# Altium footprint library pcb_lib.PcbLib: 17 footprints (part 1 of 2)
Each footprint in its own frame and in the unit in brackets; x right, y up, seen from the top. Pads: shape width x height; smd on the part's side, far side on the other; paste and mask are expansions set on the pad; w line width, h text height; cw(c..) or ccw(c..) is an arc to the next point about the centre after c.
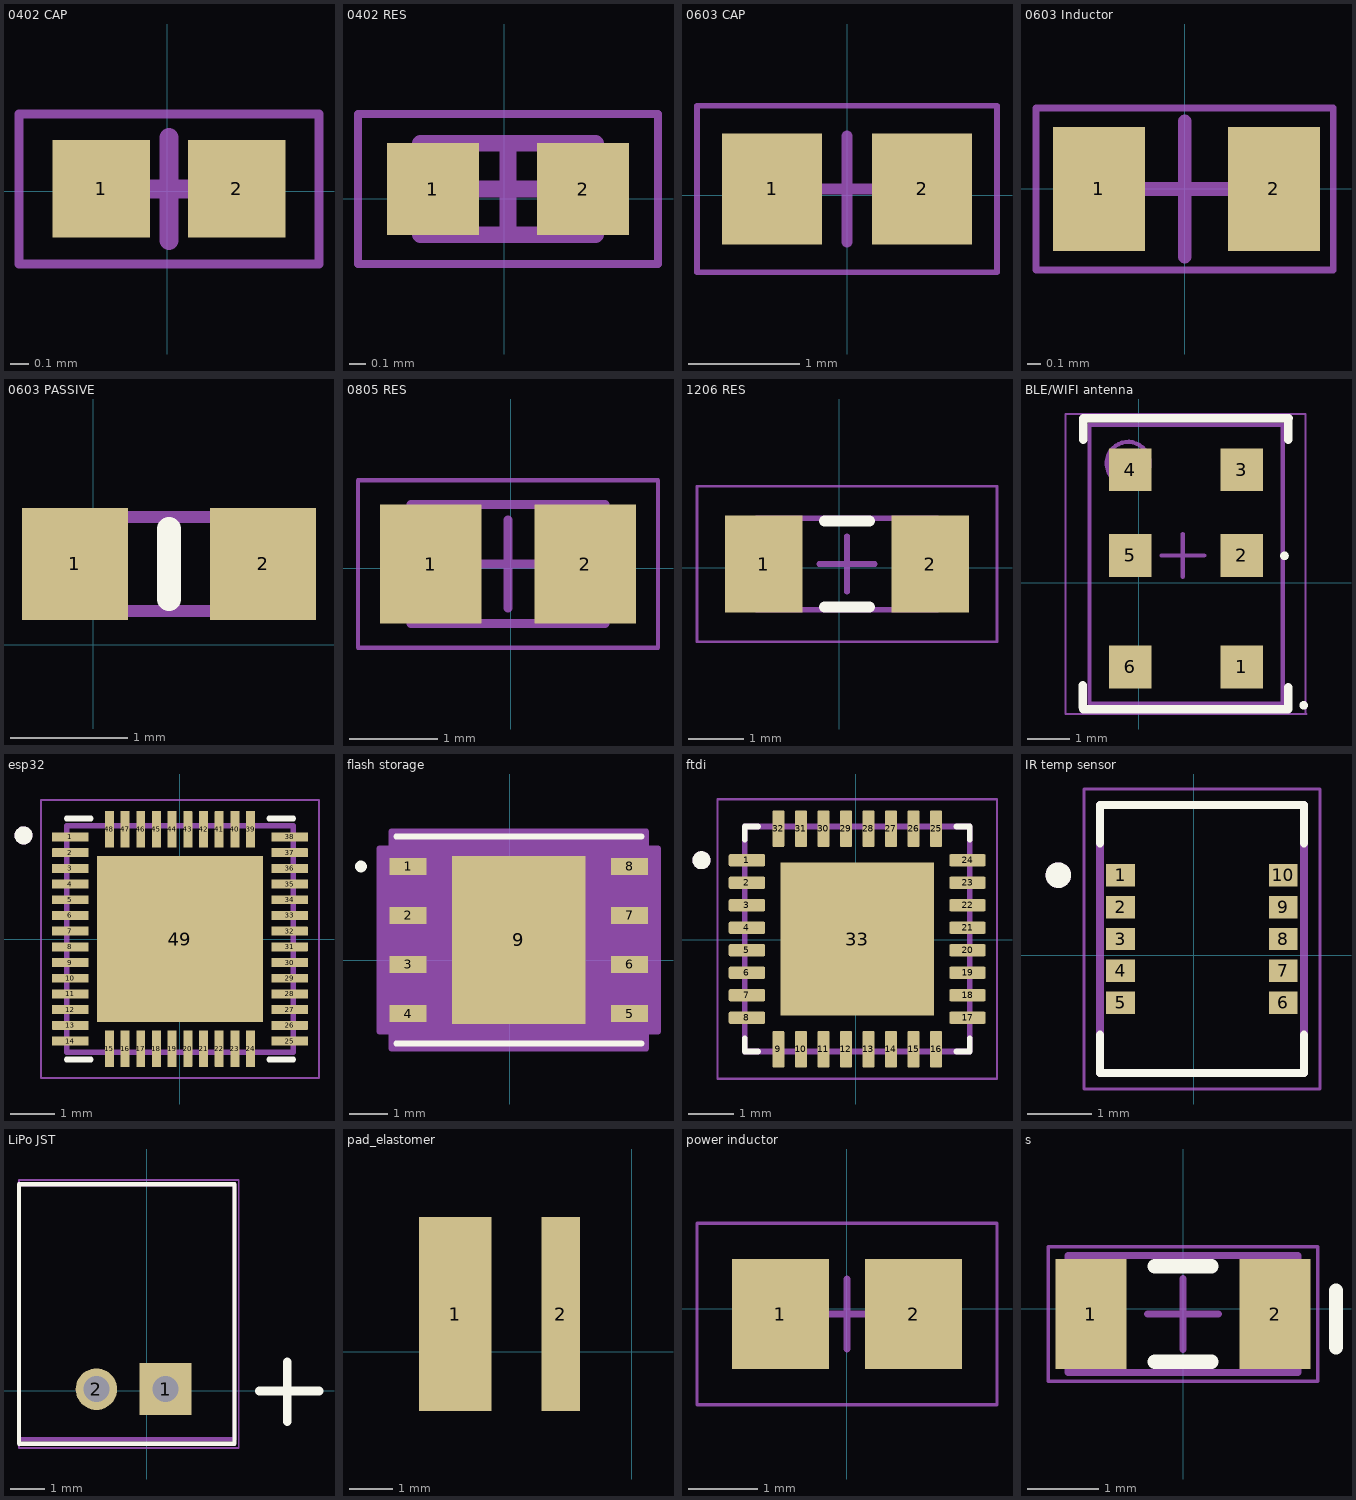
[diagram p0: the footprints below, top view; thin cyan lines are the x and y axes]

## 0402 CAP [mm]
pads (2):
  rect 0.52x0.52 smd: 1(-0.351,0.013) 2(0.369,0.013)
Mechanical 15:
  lines w0.05: -0.791,-0.387 -0.791,0.413 0.809,0.413 0.809,-0.387 -0.791,-0.387
  lines w0.1: -0.266,0.013 0.284,0.013 ; 0.009,-0.262 0.009,0.288
3D body "CAPC1005X06L.STEP": height 0.46, standoff -0.04, extent -0.491,-0.237 0.509,0.263

## 0402 RES [mm]
pads (2):
  rect 0.55x0.55 smd: 1(-0.428,0.058) 2(0.472,0.058)
Mechanical 13:
  lines w0.1: -0.503,-0.217 0.547,-0.217 0.547,0.333 -0.503,0.333 -0.503,-0.217
Mechanical 15:
  lines w0.05: -0.878,-0.392 0.922,-0.392 0.922,0.508 -0.878,0.508 -0.878,-0.392
  lines w0.1: -0.253,0.058 0.297,0.058 ; 0.022,-0.217 0.022,0.333
3D body "RESC1005X04N.step": height 0.4, standoff 0, extent -0.503,-0.217 0.547,0.333

## 0603 CAP [mm]
pads (2):
  rect 0.9x1 smd: 1(-0.677,0.057) 2(0.673,0.057)
Mechanical 15:
  lines w0.05: -1.352,-0.693 1.348,-0.693 1.348,0.807 -1.352,0.807 -1.352,-0.693
  lines w0.1: -0.477,0.057 0.473,0.057 ; -0.002,-0.418 -0.002,0.532
3D body "CAPC1608X09L.STEP": height 0.78, standoff -0.02, extent -0.802,-0.343 0.798,0.457

## 0603 Inductor [mm]
pads (2):
  rect 0.68x0.92 smd: 1(-0.635,0) 2(0.66,0)
Mechanical 15:
  lines w0.05: -1.1,-0.6 1.1,-0.6 1.1,0.6 -1.1,0.6 -1.1,-0.6
  lines w0.1: -0.5,0 0.5,0 ; 0,-0.5 0,0.5
3D body "STEP-WE-PMCI-0603_LP-rev1.stp": height 0.81, standoff 0.01, extent -0.762,-0.419 0.838,0.381

## 0603 PASSIVE [mm]
pads (2):
  rect 0.9x0.95 smd: 1(-0.158,0.687) 2(1.442,0.687)
Top Overlay:
  lines w0.2: 0.642,0.387 0.642,0.987
Mechanical 15:
  lines w0.1: -0.158,0.287 -0.158,1.087 1.442,1.087 1.442,0.287 -0.158,0.287
3D body "C0603C104J5RACTU.STEP": height 0.9, standoff 0.1, extent -0.158,0.179 1.442,1.049

## 0805 RES [mm]
pads (2):
  rect 1.15x1.35 smd: 1(-0.908,0.05) 2(0.842,0.05)
Mechanical 13:
  lines w0.1: -1.133,-0.625 -1.133,0.725 1.067,0.725 1.067,-0.625 -1.133,-0.625
Mechanical 15:
  lines w0.05: -1.733,-0.9 -1.733,1 1.667,1 1.667,-0.9 -1.733,-0.9
  lines w0.1: -0.533,0.05 0.467,0.05 ; -0.033,-0.45 -0.033,0.55
3D body "RESC2012X07N.step": height 0.7, standoff 0, extent -1.133,-0.625 1.067,0.725

## 1206 RES [mm]
pads (2):
  rect 1.4x1.75 smd: 1(-1.36,0.069) 2(1.64,0.069)
Top Overlay:
  lines w0.2: -0.26,-0.706 0.54,-0.706 ; -0.26,0.844 0.54,0.844
Mechanical 13:
  lines w0.1: -1.485,-0.756 1.765,-0.756 1.765,0.894 -1.485,0.894 -1.485,-0.756
Mechanical 15:
  lines w0.05: -2.56,-1.331 2.84,-1.331 2.84,1.469 -2.56,1.469 -2.56,-1.331
  lines w0.1: -0.36,0.069 0.64,0.069 ; 0.14,-0.431 0.14,0.569
3D body "RESC3115X07M.step": height 0.7, standoff 0, extent -1.485,-0.756 1.765,0.894

## BLE/WIFI antenna [mm]
pads (6):
  rect 1x1 smd: 1(2.397,-1.958) 2(2.397,0.642) 3(2.397,2.642) 4(-0.203,2.642) 5(-0.203,0.642) 6(-0.203,-1.958)
Top Overlay:
  circle w0.1: c3.842,-2.857 r0.05
  lines w0.1: 3.436,0.662 ccw(c3.395,0.633) 3.445,0.633
  lines w0.2: -1.315,-2.898 -1.315,-2.39 ; -1.303,-2.946 3.478,-2.946 3.478,-2.438 ; -1.303,3.342 -1.303,3.842 3.497,3.842 ; 3.478,3.342 3.478,3.842
Top Assembly:
  circle w0.1: c-0.253,2.792 r0.5
  lines w0.1: -1.153,-2.819 3.353,-2.819 3.353,3.692 -1.153,3.692 -1.153,-2.819
Top Courtyard:
  lines w0.05: 3.888,-3.058 3.888,3.942 -1.713,3.942 -1.713,-3.058 3.907,-3.058
  lines w0.1: 0.524,0.642 1.524,0.642 ; 1.024,0.142 1.024,1.142
3D body: height 0.5, standoff 0.4, extent -1.153,-2.819 3.353,3.692

## esp32 [mm]
pads (49):
  rrect5% 0.81x0.2 smd: 1(-2.445,2.275) 2(-2.445,1.925) 3(-2.445,1.575) 4(-2.445,1.225) 5(-2.445,0.875) 6(-2.445,0.525) 7(-2.445,0.175) 8(-2.445,-0.175) 9(-2.445,-0.525) 10(-2.445,-0.875) 11(-2.445,-1.225) 12(-2.445,-1.575) 13(-2.445,-1.925) 14(-2.445,-2.275) 25(2.445,-2.275) 26(2.445,-1.925) 27(2.445,-1.575) 28(2.445,-1.225) 29(2.445,-0.875) 30(2.445,-0.525) 31(2.445,-0.175) 32(2.445,0.175) 33(2.445,0.525) 34(2.445,0.875) 35(2.445,1.225) 36(2.445,1.575) 37(2.445,1.925) 38(2.445,2.275)
  rrect5% 0.2x0.81 smd: 15(-1.575,-2.445) 16(-1.225,-2.445) 17(-0.875,-2.445) 18(-0.525,-2.445) 19(-0.175,-2.445) 20(0.175,-2.445) 21(0.525,-2.445) 22(0.875,-2.445) 23(1.225,-2.445) 24(1.575,-2.445) 39(1.575,2.445) 40(1.225,2.445) 41(0.875,2.445) 42(0.525,2.445) 43(0.175,2.445) 44(-0.175,2.445) 45(-0.525,2.445) 46(-0.875,2.445) 47(-1.225,2.445) 48(-1.575,2.445)
  rect 3.7x3.7 smd paste-3: 49(0,0)
Top Overlay:
  circle w0.2: c-3.49,2.31 r0.1
  lines w0.127: -2.525,-2.689 -1.99,-2.689 ; -2.525,2.689 -1.99,2.689 ; 1.99,-2.689 2.525,-2.689 ; 1.99,2.689 2.525,2.689
Top Paste:
  region: 1.49,-1.49 0.18,-1.49 0.18,-0.18 1.49,-0.18
  region: -0.18,-1.49 -1.49,-1.49 -1.49,-0.18 -0.18,-0.18
  region: 1.49,0.18 0.18,0.18 0.18,1.49 1.49,1.49
  region: -0.18,0.18 -1.49,0.18 -1.49,1.49 -0.18,1.49
Mechanical 13:
  circle w0.2: c-3.49,2.31 r0.1
  lines w0.127: -2.525,-2.525 2.525,-2.525 2.525,2.525 -2.525,2.525 -2.525,-2.525
Mechanical 15:
  lines w0.05: -3.1,-3.1 -3.1,3.1 3.1,3.1 3.1,-3.1 -3.1,-3.1
3D body "ESP32-D0WD-V3.STEP": height 0.9, standoff 0, extent -2.54,-2.54 2.46,2.46

## flash storage [mil]
pads (9):
  rect 38x17 smd paste+0 mask+0: 1(-103.77,95.85) 2(-103.77,45.85) 3(-103.77,-4.15) 4(-103.77,-54.15) 5(122.23,-54.15) 6(122.23,-4.15) 7(122.23,45.85) 8(122.23,95.85)
  rect 136x171 smd paste+0 mask+0: 9(9.23,20.85)
Top Overlay:
  circle w6: c-151.77,95.85 r3
  lines w6: -115.77,-84.65 134.23,-84.65 ; -115.77,126.35 134.23,126.35
Top Paste:
  region: 73.3,-11.58 13.17,-11.58 13.17,-60.71 73.3,-60.71
  region: 73.3,45.42 13.17,45.42 13.17,-3.71 73.3,-3.71
  region: 73.3,102.42 13.17,102.42 13.17,53.29 73.3,53.29
  region: 5.3,-11.58 -54.83,-11.58 -54.83,-60.71 5.3,-60.71
  region: 5.3,45.42 -54.83,45.42 -54.83,-3.71 5.3,-3.71
  region: 5.3,102.42 -54.83,102.42 -54.83,53.29 5.3,53.29
Mechanical 13:
  circle w6: c-84.77,95.85 r3
  lines w0: -2.77,121.35 ccw(c9.23,121.35) 21.23,121.35
  lines w1: -110.77,-79.65 -110.77,121.35 129.23,121.35 129.23,-79.65 -110.77,-79.65
Mechanical 15:
  region: -120.77,-72.65 -132.77,-72.65 -132.77,114.35 -120.77,114.35 -120.77,131.35 139.23,131.35 139.23,114.35 151.23,114.35 151.23,-72.65 139.23,-72.65 139.23,-89.65 -120.77,-89.65
  lines w6: -132.77,-72.65 -120.77,-72.65 -120.77,-89.65 139.23,-89.65 139.23,-72.65 151.23,-72.65 151.23,114.35 139.23,114.35 139.23,131.35 -120.77,131.35 -120.77,114.35 -132.77,114.35 -132.77,-72.65
3D body "WSON-8_6X5_WIN.step": height 32.09, standoff 0, extent -110.77,-79.66 129.23,121.36

## ftdi [mm]
pads (33):
  rrect25% 0.81x0.27 smd: 1(-2.418,1.764) 2(-2.418,1.264) 3(-2.418,0.764) 4(-2.418,0.264) 5(-2.418,-0.236) 6(-2.418,-0.736) 7(-2.418,-1.236) 8(-2.418,-1.736) 17(2.482,-1.736) 18(2.482,-1.236) 19(2.482,-0.736) 20(2.482,-0.236) 21(2.482,0.264) 22(2.482,0.764) 23(2.482,1.264) 24(2.482,1.764)
  rrect25% 0.27x0.81 smd: 9(-1.718,-2.436) 10(-1.218,-2.436) 11(-0.718,-2.436) 12(-0.218,-2.436) 13(0.282,-2.436) 14(0.782,-2.436) 15(1.282,-2.436) 16(1.782,-2.436) 25(1.782,2.464) 26(1.282,2.464) 27(0.782,2.464) 28(0.282,2.464) 29(-0.218,2.464) 30(-0.718,2.464) 31(-1.218,2.464) 32(-1.718,2.464)
  rect 3.4x3.4 smd paste-0.62: 33(0.032,0.014)
Top Overlay:
  circle w0.2: c-3.428,1.764 r0.1
  lines w0.127: -2.468,-2.191 -2.468,-2.486 -2.173,-2.486 ; -2.468,2.219 -2.468,2.514 -2.173,2.514 ; 2.237,-2.486 2.532,-2.486 2.532,-2.191 ; 2.237,2.514 2.532,2.514 2.532,2.219
Mechanical 13:
  circle w0.2: c-3.428,1.764 r0.1
  lines w0.127: -2.468,-2.486 -2.468,2.514 2.532,2.514 2.532,-2.486 -2.468,-2.486
Mechanical 15:
  lines w0.05: -3.073,-3.091 -3.073,3.119 3.137,3.119 3.137,-3.091 -3.073,-3.091
3D body "step_temp.STEP": height 0.9, standoff 0, extent -2.468,-2.486 2.532,2.514

## IR temp sensor [mm]
pads (10):
  rect 0.45x0.35 smd paste-1 mask+0.05: 1(-1.148,1.254) 2(-1.148,0.754) 3(-1.148,0.254) 4(-1.148,-0.246) 5(-1.148,-0.746) 6(1.402,-0.746) 7(1.402,-0.246) 8(1.402,0.254) 9(1.402,0.754) 10(1.402,1.254)
Top Overlay:
  circle w0.2: c-2.123,1.254 r0.1
  lines w0.127: -1.473,-1.246 -1.473,-1.846 1.727,-1.846 1.727,-1.246 ; -1.473,1.754 -1.473,2.354 1.727,2.354 1.727,1.754
Top Paste:
  region: 1.605,-0.904 1.199,-0.904 1.199,-0.589 1.605,-0.589
  region: -0.945,-0.904 -1.351,-0.904 -1.351,-0.589 -0.945,-0.589
  region: 1.605,-0.403 1.199,-0.403 1.199,-0.089 1.605,-0.089
  region: -0.945,-0.403 -1.351,-0.403 -1.351,-0.089 -0.945,-0.089
  region: 1.605,0.096 1.199,0.096 1.199,0.412 1.605,0.412
  region: -0.945,0.096 -1.351,0.096 -1.351,0.412 -0.945,0.412
  region: 1.605,0.597 1.199,0.597 1.199,0.911 1.605,0.911
  region: -0.945,0.597 -1.351,0.597 -1.351,0.911 -0.945,0.911
  region: 1.605,1.097 1.199,1.097 1.199,1.412 1.605,1.412
  region: -0.945,1.097 -1.351,1.097 -1.351,1.412 -0.945,1.412
Mechanical 13:
  circle w0.2: c-2.123,1.254 r0.1
  lines w0.127: -1.473,-1.846 -1.473,2.354 1.727,2.354 1.727,-1.846 -1.473,-1.846
Mechanical 15:
  lines w0.05: -1.723,-2.096 -1.723,2.604 1.977,2.604 1.977,-2.096 -1.723,-2.096
3D body "step_temp.STEP": height 1.46, standoff 0, extent -1.473,-1.846 1.727,2.354

## LiPo JST [mm]
pads (2):
  rect 1.5x1.5 hole 0.75: 1(0.552,0.051)
  round 1.2 hole 0.75: 2(-1.448,0.051)
Top Overlay:
  lines w0.127: -3.683,-1.524 2.54,-1.524 2.54,5.969 -3.683,5.969 -3.683,-1.524
  lines w0.254: 3.255,0 4.982,0 ; 4.064,-0.892 4.064,0.835
Mechanical 13:
  lines w0.127: -3.683,-1.397 2.54,-1.397 2.54,5.969 -3.683,5.969 -3.683,-1.397
Mechanical 15:
  lines w0.05: -3.683,-1.651 -3.683,6.096 2.667,6.096 2.667,-1.651 -3.683,-1.651
3D body "532540270.stp": height 4.2, standoff -3.5, extent -3.46,-1.237 2.54,6.063

## pad_elastomer [mil]
pads (2):
  rect 65x175 smd: 1(-159,34)
  rect 35x175 smd: 2(-64,34)

## power inductor [mm]
pads (2):
  rect 1.39x1.57 smd: 1(-0.955,-0.076) 2(0.955,-0.076)
Mechanical 15:
  lines w0.05: -2.15,-1.376 -2.15,1.224 2.15,1.224 2.15,-1.376 -2.15,-1.376
  lines w0.1: -0.5,-0.076 0.5,-0.076 ; 0,-0.576 0,0.424
3D body "STEP-WE-PMCI-0806_LR-rev1.stp": height 1.02, standoff 0.02, extent -1,-0.701 1,0.549

## s [mm]
pads (2):
  rect 1x1.55 smd: 1(-1.3,-0.076) 2(1.3,-0.076)
Top Overlay:
  lines w0.2: -0.4,-0.751 0.4,-0.751 ; -0.4,0.599 0.4,0.599 ; 2.159,-0.546 2.159,0.254
Mechanical 13:
  lines w0.1: -1.625,-0.901 -1.625,0.749 1.625,0.749 1.625,-0.901 -1.625,-0.901
Mechanical 15:
  lines w0.05: -1.9,-1.026 -1.9,0.874 1.9,0.874 1.9,-1.026 -1.9,-1.026
  lines w0.1: -0.5,-0.076 0.5,-0.076 ; 0,-0.576 0,0.424
3D body "RESC3115X07L.step": height 0.7, standoff 0, extent -1.625,-0.901 1.625,0.749